# Altium footprint library STM32_F4VE.PcbLib: 20 footprints (part 2 of 2)
Each footprint in its own frame and in the unit in brackets; x right, y up, seen from the top. Pads: shape width x height; smd on the part's side, far side on the other; paste and mask are expansions set on the pad; w line width, h text height; cw(c..) or ccw(c..) is an arc to the next point about the centre after c.
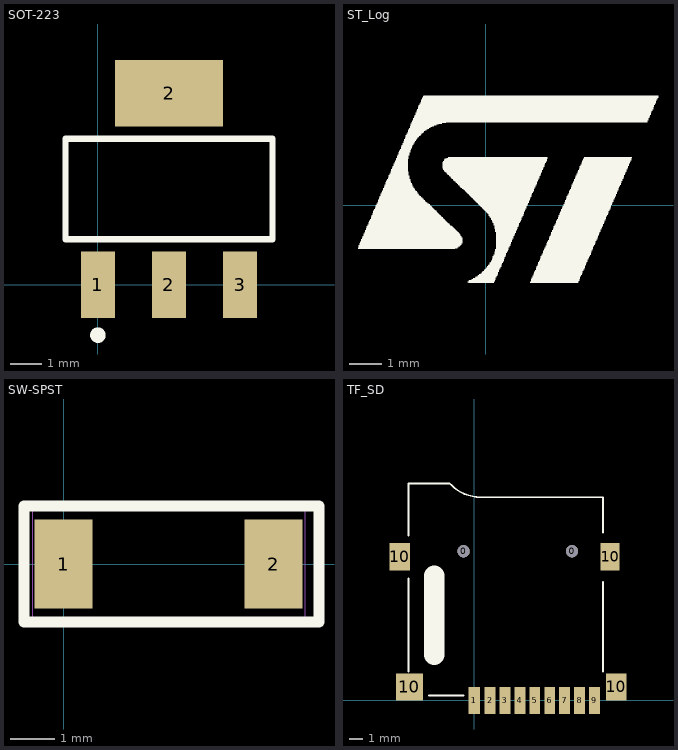
[diagram p1: the footprints below, top view; thin cyan lines are the x and y axes]

## SOT-223 [mm]
pads (4):
  rect 1.1x2.15 smd: 1(0,0) 2(2.3,0) 3(4.6,0)
  rect 3.5x2.15 smd: 2(2.3,6.2)
Top Overlay:
  circle w0.25: c0,-1.625 r0.125
  lines w0.2: -1.05,1.475 5.65,1.475 5.65,4.725 -1.05,4.725 -1.05,1.475

## ST_Log [mm]
Top Overlay:
  drawing of 499 lines, arcs and shapes, not listed

## SW-SPST [mm]
pads (2):
  rect 1.3x2 smd paste+0 mask+0.2: 1(0,0) 2(4.7,0)
Top Overlay:
  lines w0.254: -0.888,-1.3 5.716,-1.3 5.716,1.3 -0.888,1.3 -0.888,-1.3
Mechanical 1:
  lines w0.025: -0.695,-1.3 5.405,-1.3 5.405,1.3 -0.695,1.3 -0.695,-1.3
Mechanical 2:
  lines w0.003: -0.695,-1.3 5.405,-1.3 5.405,1.3 -0.695,1.3 -0.695,-1.3

## TF_SD [mm]
pads (15):
  round 0.9 hole 0.9 unplated: 0(-0.8,11) 0(7.2,11)
  rect 0.85x2 smd: 1(0,0)
  rect 0.8x2 smd: 2(1.15,0) 3(2.25,0) 4(3.35,0) 5(4.45,0) 6(5.55,0) 7(6.65,0) 8(7.75,0) 9(8.85,0)
  rect 1.5x2 smd: 10(-5.5,10.6) 10(10.45,1)
  rect 2x2 smd: 10(-4.8,1)
  rect 1.4x2 smd: 10(10,10.6)
Top Overlay:
  lines w0.127: -4.865,12.143 -4.865,15 ; -4.865,14.683 -4.865,16 -1.816,16 -1.714,15.898 ccw(c0.454,18.066) 0.454,15 1.74,15 9.486,15 9.486,12.397 ; -4.862,2.138 -4.862,8.996 ; 9.489,2.138 9.489,8.742
  lines w0.15: -3.338,0.36 -0.798,0.36
  lines w1.5: -2.959,3.38 -2.959,9.222